# EAGLE library part PHB_1MM27_2X20_* (library _hhn_con_pinhead_box_1mm27)
Pin Header Box-Type, 1.27mm/0.5"/50mil Pitch, 2x20 Circuits Note: see library description for an important note about THT-version
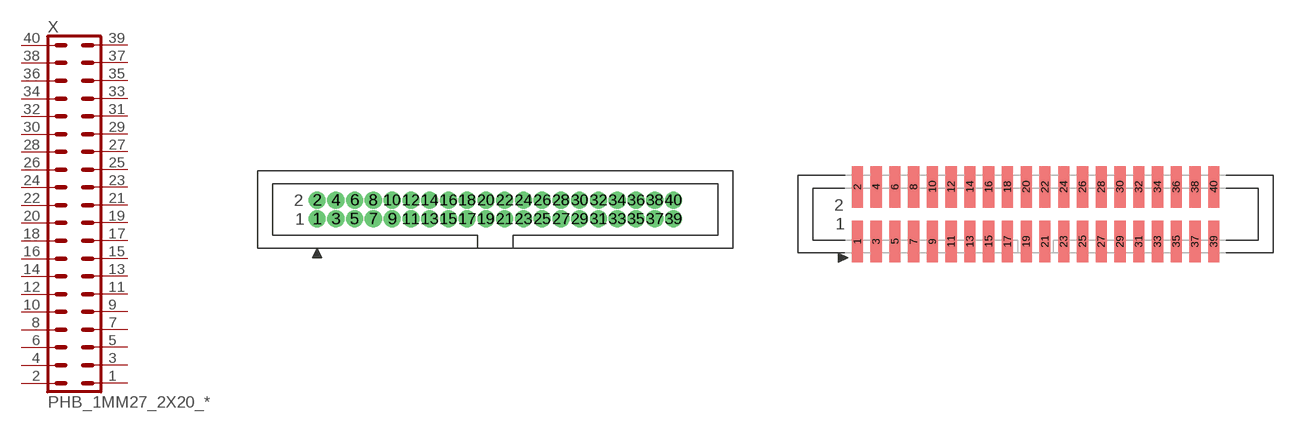
[diagram p8: symbol with the pads of PHB_1MM27_2X20_SNT; footprints PHB_1MM27_2X20_SNT, PHB_1MM27_2X20_SNS]

Designator prefix X

## PHB_1MM27_2X20_SNT  [PHB_1MM27_2X20_SNT]
1  1  pas
2  2  pas
3  3  pas
4  4  pas
5  5  pas
6  6  pas
7  7  pas
8  8  pas
9  9  pas
10  10  pas
11  11  pas
12  12  pas
13  13  pas
14  14  pas
15  15  pas
16  16  pas
17  17  pas
18  18  pas
19  19  pas
20  20  pas
21  21  pas
22  22  pas
23  23  pas
24  24  pas
25  25  pas
26  26  pas
27  27  pas
28  28  pas
29  29  pas
30  30  pas
31  31  pas
32  32  pas
33  33  pas
34  34  pas
35  35  pas
36  36  pas
37  37  pas
38  38  pas
39  39  pas
40  40  pas

## PHB_1MM27_2X20_SNS  [PHB_1MM27_2X20_SNS]
Pads as for PHB_1MM27_2X20_SNT

## Footprint PHB_1MM27_2X20_SNT (pad centres in mm)
Pin Header Box-Type, 1.27mm Pitch, 2x20 circuits, Straight, No Locking, THT Important Note regarding to THT-versions: see description of library
drill 0.65 round: 1 -12.065,-0.635; 2 -12.065,0.635; 3 -10.795,-0.635; 4 -10.795,0.635; 5 -9.525,-0.635; 6 -9.525,0.635; 7 -8.255,-0.635; 8 -8.255,0.635; 9 -6.985,-0.635; 10 -6.985,0.635; 11 -5.715,-0.635; 12 -5.715,0.635; 13 -4.445,-0.635; 14 -4.445,0.635; 15 -3.175,-0.635; 16 -3.175,0.635; 17 -1.905,-0.635; 18 -1.905,0.635; 19 -0.635,-0.635; 20 -0.635,0.635; 21 0.635,-0.635; 22 0.635,0.635; 23 1.905,-0.635; 24 1.905,0.635; 25 3.175,-0.635; 26 3.175,0.635; 27 4.445,-0.635; 28 4.445,0.635; 29 5.715,-0.635; 30 5.715,0.635; 31 6.985,-0.635; 32 6.985,0.635; 33 8.255,-0.635; 34 8.255,0.635; 35 9.525,-0.635; 36 9.525,0.635; 37 10.795,-0.635; 38 10.795,0.635; 39 12.065,-0.635; 40 12.065,0.635

## Footprint PHB_1MM27_2X20_SNS (pad centres in mm)
Pin Header Box-Type, 1.27mm Pitch, 2x20 circuits, Straight, No Locking, SMT
smd 0.76 x 2.8: 1 -12.065,-1.85; 2 -12.065,1.85; 3 -10.795,-1.85; 4 -10.795,1.85; 5 -9.525,-1.85; 6 -9.525,1.85; 7 -8.255,-1.85; 8 -8.255,1.85; 9 -6.985,-1.85; 10 -6.985,1.85; 11 -5.715,-1.85; 12 -5.715,1.85; 13 -4.445,-1.85; 14 -4.445,1.85; 15 -3.175,-1.85; 16 -3.175,1.85; 17 -1.905,-1.85; 18 -1.905,1.85; 19 -0.635,-1.85; 20 -0.635,1.85; 21 0.635,-1.85; 22 0.635,1.85; 23 1.905,-1.85; 24 1.905,1.85; 25 3.175,-1.85; 26 3.175,1.85; 27 4.445,-1.85; 28 4.445,1.85; 29 5.715,-1.85; 30 5.715,1.85; 31 6.985,-1.85; 32 6.985,1.85; 33 8.255,-1.85; 34 8.255,1.85; 35 9.525,-1.85; 36 9.525,1.85; 37 10.795,-1.85; 38 10.795,1.85; 39 12.065,-1.85; 40 12.065,1.85